# EAGLE library part SJ-43504-SMT-TR (library Audio Connectors)
CONN JACK 4COND 3.5MM SMD R/A Manufacturer's datasheet <https://www.cuidevices.com/product/resource/sj-43504-smt-tr.pdf>
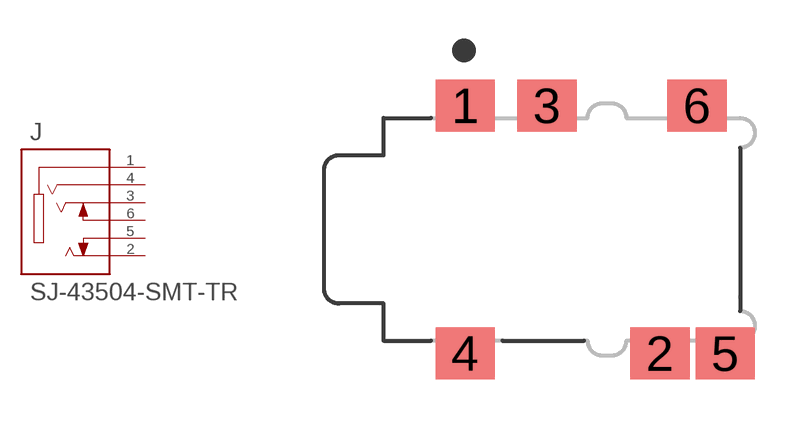
[diagram p1: symbol with the pads of SJ-43504-SMT-TR; footprint SJ-43504-SMT-TR]

Designator prefix J

## SJ-43504-SMT-TR (CREATED_BY: PCBLayout.com; DIGIKEY_PARTNO: CP-43504SJTR-ND; MANUFACTURER: CUI Devices; MPN: SJ-43504-SMT-TR)  [SJ-43504-SMT-TR]
1  SLEEVE  pas
2  TIP  pas
3  RING1  pas
4  RING2  pas
5  TIP_SWITCH  pas
6  RING1_SWITCH  pas

## Footprint SJ-43504-SMT-TR (pad centres in mm)
smd 2 x 1.75: 1 -3.25,4.175; 2 3.3,-4.175; 3 -0.5,4.175; 4 -3.25,-4.175; 5 5.5,-4.175; 6 4.55,4.175